# Altium footprint library 2021-06-09_13-53-51.PcbLib: 1 footprints
Each footprint in its own frame and in the unit in brackets; x right, y up, seen from the top. Pads: shape width x height; smd on the part's side, far side on the other; paste and mask are expansions set on the pad; w line width, h text height; cw(c..) or ccw(c..) is an arc to the next point about the centre after c.
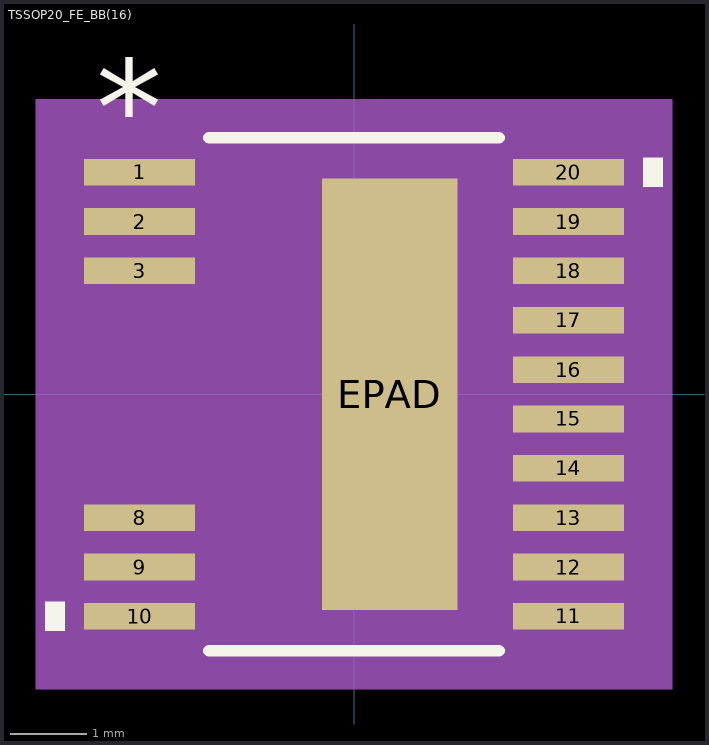
[diagram p0: the footprint, top view; thin cyan lines are the x and y axes]

## TSSOP20_FE_BB(16) [mm]
pads (17):
  rect 1.461x0.351 smd paste+0 mask+0: 1(-2.825,2.925) 2(-2.825,2.275) 3(-2.825,1.625) 8(-2.825,-1.625) 9(-2.825,-2.275) 10(-2.825,-2.925) 11(2.825,-2.925) 12(2.825,-2.275) 13(2.825,-1.625) 14(2.825,-0.975) 15(2.825,-0.325) 16(2.825,0.325) 17(2.825,0.975) 18(2.825,1.625) 19(2.825,2.275) 20(2.825,2.925)
  rect 1.78x5.68 smd paste-2.827 mask+0: EPAD(0.47,0)
Top Overlay:
  region: 3.81,3.115 4.064,3.115 4.064,2.734 3.81,2.734
  region: -3.81,-2.734 -4.064,-2.734 -4.064,-3.115 -3.81,-3.115
  lines w0.152: -1.909,-3.377 1.909,-3.377 ; -1.909,3.377 1.909,3.377
  text "*" at -3.397,3.149 h1.27
Top Paste:
  region: 1.26,-1.52 -0.32,-1.52 -0.32,-2.74 1.26,-2.74
  region: 1.26,-0.1 -0.32,-0.1 -0.32,-1.32 1.26,-1.32
  region: 1.26,1.32 -0.32,1.32 -0.32,0.1 1.26,0.1
  region: 1.26,2.74 -0.32,2.74 -0.32,1.52 1.26,1.52
Mechanical 5:
  region: 4.191,-3.885 -4.191,-3.885 -4.191,3.885 4.191,3.885
Mechanical 13:
  lines w0: -0.305,3.25 ccw(c0,3.25) 0.305,3.25
  lines w0.025: -3.2,-3.075 -2.2,-3.075 -2.2,-2.775 -3.2,-2.775 -3.2,-3.075 ; -3.2,-2.425 -2.2,-2.425 -2.2,-2.125 -3.2,-2.125 -3.2,-2.425 ; -3.2,-1.775 -2.2,-1.775 -2.2,-1.475 -3.2,-1.475 -3.2,-1.775 ; -3.2,1.475 -2.2,1.475 -2.2,1.775 -3.2,1.775 -3.2,1.475 ; -3.2,2.125 -2.2,2.125 -2.2,2.425 -3.2,2.425 -3.2,2.125 ; -3.2,2.775 -2.2,2.775 -2.2,3.075 -3.2,3.075 -3.2,2.775 ; -2.2,-3.25 -2.2,3.25 2.2,3.25 2.2,-3.25 -2.2,-3.25 ; 2.2,-3.075 3.2,-3.075 3.2,-2.775 2.2,-2.775 2.2,-3.075 ; 2.2,-2.425 3.2,-2.425 3.2,-2.125 2.2,-2.125 2.2,-2.425 ; 2.2,-1.775 3.2,-1.775 3.2,-1.475 2.2,-1.475 2.2,-1.775 ; 2.2,-1.125 3.2,-1.125 3.2,-0.825 2.2,-0.825 2.2,-1.125 ; 2.2,-0.475 3.2,-0.475 3.2,-0.175 2.2,-0.175 2.2,-0.475 ; 2.2,0.175 3.2,0.175 3.2,0.475 2.2,0.475 2.2,0.175 ; 2.2,0.825 3.2,0.825 3.2,1.125 2.2,1.125 2.2,0.825 ; 2.2,1.475 3.2,1.475 3.2,1.775 2.2,1.775 2.2,1.475 ; 2.2,2.125 3.2,2.125 3.2,2.425 2.2,2.425 2.2,2.125 ; 2.2,2.775 3.2,2.775 3.2,3.075 2.2,3.075 2.2,2.775
  text "*" at -2.137,1.904 h1.27
Mechanical 15:
  region: -2.454,-3.354 -3.81,-3.354 -3.81,3.354 -2.454,3.354 -2.454,3.504 2.454,3.504 2.454,3.354 3.81,3.354 3.81,-3.354 2.454,-3.354 2.454,-3.504 -2.454,-3.504
  lines w0.152: -3.81,-3.354 -2.454,-3.354 -2.454,-3.504 2.454,-3.504 2.454,-3.354 3.81,-3.354 3.81,3.354 2.454,3.354 2.454,3.504 -2.454,3.504 -2.454,3.354 -3.81,3.354 -3.81,-3.354
3D body: height 0.25, standoff 0, extent 0,0 0.254,0.254